# EAGLE library part INA214 (library custom)
Current Shunt Amplifier 30kHz 2.7-26V
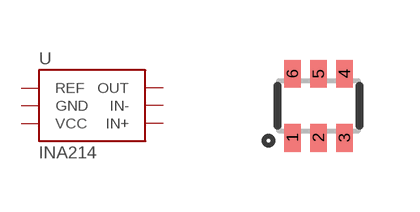
[diagram p50: symbol with the pads of SOT-363; footprint SOT-363]

Designator prefix U

## INA214  [SOT-363]
1  REF
2  GND
3  VCC
4  IN+
5  IN-
6  OUT

## Footprint SOT-363 (pad centres in mm)
smd 0.42 x 0.7: 1 -0.65,-0.8; 2 0,-0.8; 3 0.65,-0.8; 4 0.65,0.8; 5 0,0.8; 6 -0.65,0.8